# EAGLE library part 7441 (library Parts)
7441 Nixie Driver Compatible with K155ID1 (Russian clone). Datasheet <https://tubehobby.com/datasheets/k155id1.pdf>
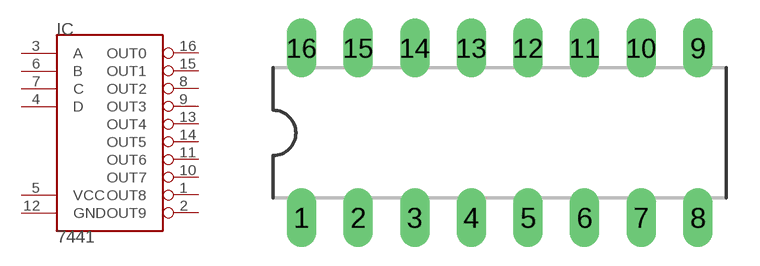
[diagram p11: symbol with the pads of DIL16; footprint DIL16]

Designator prefix IC

## 7441DIL16  [DIL16]
1  OUT8  out
2  OUT9  out
3  A  in
4  D  in
5  VCC  pas
6  B  in
7  C  in
8  OUT2  out
9  OUT3  out
10  OUT7  out
11  OUT6  out
12  GND  pas
13  OUT4  out
14  OUT5  out
15  OUT1  out
16  OUT0  out

## Footprint DIL16 (pad centres in mm)
Dual In Line Package
drill 0.813 long: 1 -8.89,-3.81; 2 -6.35,-3.81; 3 -3.81,-3.81; 4 -1.27,-3.81; 5 1.27,-3.81; 6 3.81,-3.81; 7 6.35,-3.81; 8 8.89,-3.81; 9 8.89,3.81; 10 6.35,3.81; 11 3.81,3.81; 12 1.27,3.81; 13 -1.27,3.81; 14 -3.81,3.81; 15 -6.35,3.81; 16 -8.89,3.81